# Altium footprint library capacitor.PcbLib: 1 footprints
Each footprint in its own frame and in the unit in brackets; x right, y up, seen from the top. Pads: shape width x height; smd on the part's side, far side on the other; paste and mask are expansions set on the pad; w line width, h text height; cw(c..) or ccw(c..) is an arc to the next point about the centre after c.
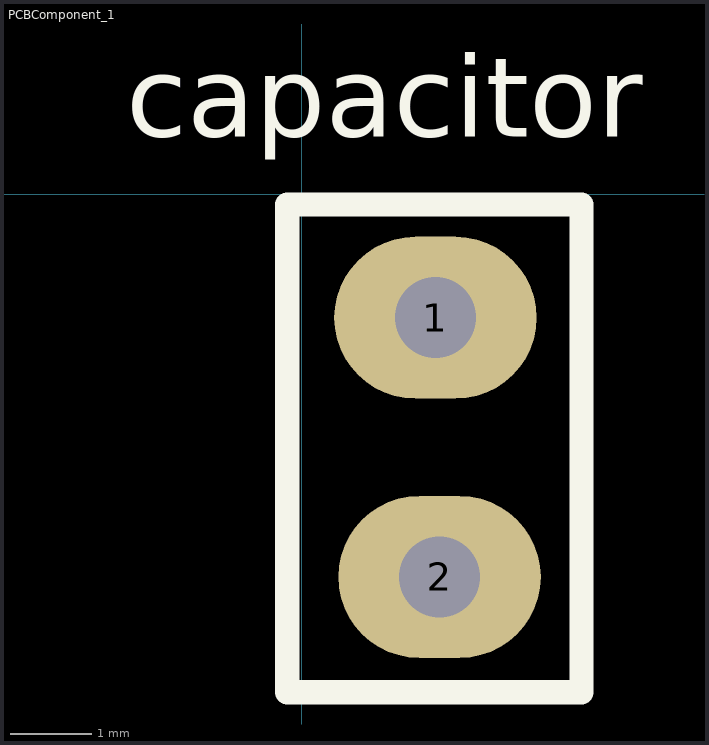
[diagram p0: the footprint, top view; thin cyan lines are the x and y axes]

## PCBComponent_1 [mm]
pads (2):
  oval 2.5x2 hole 1: 1(1.651,-1.524) 2(1.702,-4.724)
Top Overlay:
  lines w0.3: -0.178,-6.147 3.454,-6.147 3.454,-0.127 -0.178,-0.127 -0.178,-6.147
  text "capacitor" at -2.164,0.709 h1